# Altium integrated library National Semiconductor OtherParts.IntLib: 205 symbols (part 7 of 7)
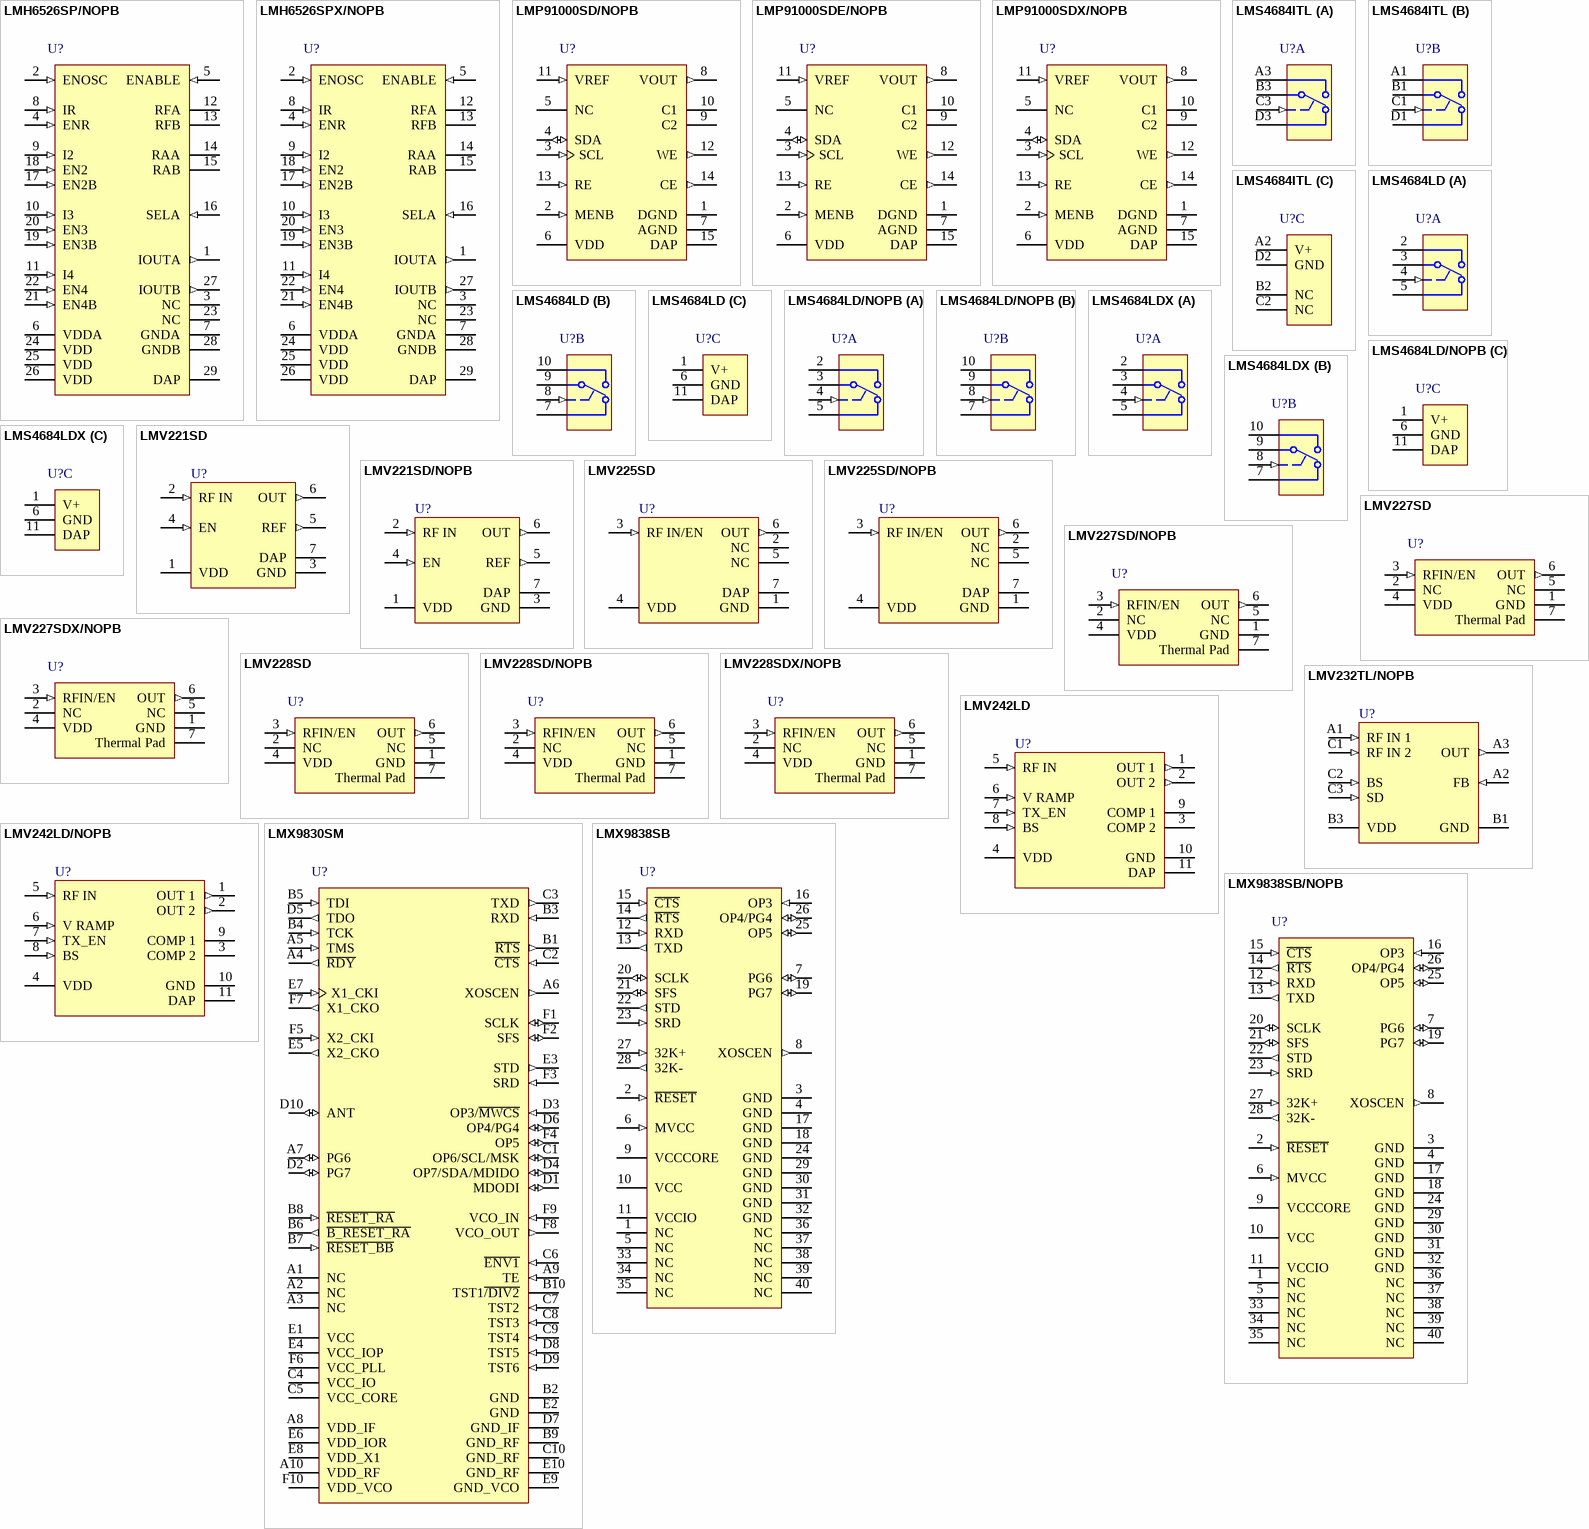
[diagram p18: symbols LMH6526SP/NOPB to LMX9838SB/NOPB]

## LMH6526SP/NOPB
designator U?
Four-Channel Laser Diode Driver with Dual Output, 28-pin LLP, Pb-Free; PartNumber: LMH6526SP/NOPB; Manufacturer: National Semiconductor; PackageTopMarking: NS*UZXYTT*L6526SP; PowerWise: N; CompType: OtherParts; High-Reliability: Y; DatasheetVersion: Jun-2005; PackageVersion: revA, Aug-2003; PackageReference: SPA28A; PackageDescription: LLP, Plastic, Quad, 5 x 5 x 0.6mm Body, 28 Lead, 0.5mm Pitch, No Pullback; RoHS: Y; PinCount: 28; Code_JEDEC: MO-220-WHHD-3; ComponentLink1Description: Manufacturer URL; ComponentLink1URL: http://www.national.com/; ComponentLink2Description: LMH6526 Datasheet; ComponentLink2URL: http://www.national.com/ds/LM/LMH6526.pdf; ComponentLink3Description: LMH6526 Web Page; ComponentLink3URL: http://www.national.com/pf/LM/LMH6526.html; ComponentLink4Description: SPA28A Package Page; ComponentLink4URL: http://www.national.com/packaging/folders/spa28a.html
footprint SPA28A (QFN, 28-Leads, Body 5x5mm, Pitch 0.5mm, Thermal Pad 3.7x3.7mm, NSC Recommended)
pins: 1 IOUTA (out), 2 ENOSC (in), 3 NC, 4 ENR (in), 5 ENABLE (in), 6 VDDA (power), 7 GNDA (power), 8 IR (in), 9 I2 (in), 10 I3 (in), 11 I4 (in), 12 RFA, 13 RFB, 14 RAA, 15 RAB, 16 SELA (in), 17 EN2B (in), 18 EN2 (in), 19 EN3B (in), 20 EN3 (in), 21 EN4B (in), 22 EN4 (in), 23 NC, 24 VDD (power), 25 VDD (power), 26 VDD (power), 27 IOUTB (out), 28 GNDB (power), 29 DAP (power)

## LMH6526SPX/NOPB
designator U?
Four-Channel Laser Diode Driver with Dual Output, 28-pin LLP, Pb-Free; PartNumber: LMH6526SPX/NOPB; Manufacturer: National Semiconductor; PackageTopMarking: NS*UZXYTT*L6526SP; PowerWise: N; CompType: OtherParts; High-Reliability: Y; DatasheetVersion: Jun-2005; PackageVersion: revA, Aug-2003; PackageReference: SPA28A; PackageDescription: LLP, Plastic, Quad, 5 x 5 x 0.6mm Body, 28 Lead, 0.5mm Pitch, No Pullback; RoHS: Y; PinCount: 28; Code_JEDEC: MO-220-WHHD-3; ComponentLink1Description: Manufacturer URL; ComponentLink1URL: http://www.national.com/; ComponentLink2Description: LMH6526 Datasheet; ComponentLink2URL: http://www.national.com/ds/LM/LMH6526.pdf; ComponentLink3Description: LMH6526 Web Page; ComponentLink3URL: http://www.national.com/pf/LM/LMH6526.html; ComponentLink4Description: SPA28A Package Page; ComponentLink4URL: http://www.national.com/packaging/folders/spa28a.html
footprint SPA28A (QFN, 28-Leads, Body 5x5mm, Pitch 0.5mm, Thermal Pad 3.7x3.7mm, NSC Recommended)
pins: 1 IOUTA (out), 2 ENOSC (in), 3 NC, 4 ENR (in), 5 ENABLE (in), 6 VDDA (power), 7 GNDA (power), 8 IR (in), 9 I2 (in), 10 I3 (in), 11 I4 (in), 12 RFA, 13 RFB, 14 RAA, 15 RAB, 16 SELA (in), 17 EN2B (in), 18 EN2 (in), 19 EN3B (in), 20 EN3 (in), 21 EN4B (in), 22 EN4 (in), 23 NC, 24 VDD (power), 25 VDD (power), 26 VDD (power), 27 IOUTB (out), 28 GNDB (power), 29 DAP (power)

## LMP91000SD/NOPB
designator U?
Configurable AFE Potentiostat for Low-Power Chemical Sensing Applications, 14-pin LLP, 1000 Reel; PartNumber: LMP91000SD/NOPB; Manufacturer: National Semiconductor; PackageTopMarking: NS*UZXYTT*L91000; PowerWise: N; CompType: OtherParts; High-Reliability: Y; DatasheetVersion: Jan-2011; PackageVersion: revA, Jul-2004; PackageReference: SDA14B; PackageDescription: LLP, Plastic, Dual, 4 x 4 x 0.8mm Body, 14 Lead, 0.5mm Pitch, No Pullback; RoHS: Y; PinCount: 14; ComponentLink1Description: Manufacturer URL; ComponentLink1URL: http://www.national.com/; ComponentLink2Description: LMP91000 Datasheet; ComponentLink2URL: http://www.national.com/ds/LM/LMP91000.pdf; ComponentLink3Description: LMP91000 Web Page; ComponentLink3URL: http://www.national.com/pf/LM/LMP91000.html; ComponentLink4Description: SDA14B Package Page; ComponentLink4URL: http://www.national.com/packaging/folders/sda14b.html
footprint SDA14B (SON, 14-Leads, Body 4x4mm, Pitch 0.5mm, NSC Recommended)
pins: 1 DGND (power), 2 MENB (in), 3 SCL (in), 4 SDA (io), 5 NC, 6 VDD (power), 7 AGND (power), 8 VOUT (out), 9 C2, 10 C1, 11 VREF (in), 12 WE (out), 13 RE (in), 14 CE (out), 15 DAP (power)

## LMP91000SDE/NOPB
designator U?
Configurable AFE Potentiostat for Low-Power Chemical Sensing Applications, 14-pin LLP, 250 Reel; PartNumber: LMP91000SDE/NOPB; Manufacturer: National Semiconductor; PackageTopMarking: NS*UZXYTT*L91000; PowerWise: N; CompType: OtherParts; High-Reliability: Y; DatasheetVersion: Jan-2011; PackageVersion: revA, Jul-2004; PackageReference: SDA14B; PackageDescription: LLP, Plastic, Dual, 4 x 4 x 0.8mm Body, 14 Lead, 0.5mm Pitch, No Pullback; RoHS: Y; PinCount: 14; ComponentLink1Description: Manufacturer URL; ComponentLink1URL: http://www.national.com/; ComponentLink2Description: LMP91000 Datasheet; ComponentLink2URL: http://www.national.com/ds/LM/LMP91000.pdf; ComponentLink3Description: LMP91000 Web Page; ComponentLink3URL: http://www.national.com/pf/LM/LMP91000.html; ComponentLink4Description: SDA14B Package Page; ComponentLink4URL: http://www.national.com/packaging/folders/sda14b.html
footprint SDA14B (SON, 14-Leads, Body 4x4mm, Pitch 0.5mm, NSC Recommended)
pins: 1 DGND (power), 2 MENB (in), 3 SCL (in), 4 SDA (io), 5 NC, 6 VDD (power), 7 AGND (power), 8 VOUT (out), 9 C2, 10 C1, 11 VREF (in), 12 WE (out), 13 RE (in), 14 CE (out), 15 DAP (power)

## LMP91000SDX/NOPB
designator U?
Configurable AFE Potentiostat for Low-Power Chemical Sensing Applications, 14-pin LLP, 4500 Reel; PartNumber: LMP91000SDX/NOPB; Manufacturer: National Semiconductor; PackageTopMarking: NS*UZXYTT*L91000; PowerWise: N; CompType: OtherParts; High-Reliability: Y; DatasheetVersion: Jan-2011; PackageVersion: revA, Jul-2004; PackageReference: SDA14B; PackageDescription: LLP, Plastic, Dual, 4 x 4 x 0.8mm Body, 14 Lead, 0.5mm Pitch, No Pullback; RoHS: Y; PinCount: 14; ComponentLink1Description: Manufacturer URL; ComponentLink1URL: http://www.national.com/; ComponentLink2Description: LMP91000 Datasheet; ComponentLink2URL: http://www.national.com/ds/LM/LMP91000.pdf; ComponentLink3Description: LMP91000 Web Page; ComponentLink3URL: http://www.national.com/pf/LM/LMP91000.html; ComponentLink4Description: SDA14B Package Page; ComponentLink4URL: http://www.national.com/packaging/folders/sda14b.html
footprint SDA14B (SON, 14-Leads, Body 4x4mm, Pitch 0.5mm, NSC Recommended)
pins: 1 DGND (power), 2 MENB (in), 3 SCL (in), 4 SDA (io), 5 NC, 6 VDD (power), 7 AGND (power), 8 VOUT (out), 9 C2, 10 C1, 11 VREF (in), 12 WE (out), 13 RE (in), 14 CE (out), 15 DAP (power)

## LMS4684ITL
designator U?
0.5ohm Low-Voltage, Dual SPDT Analog Switch, 12-pin Micro SMD; PartNumber: LMS4684ITL; Manufacturer: National Semiconductor; PackageTopMarking: XYTT*I F09A; PowerWise: N; CompType: OtherParts; High-Reliability: Y; DatasheetVersion: Sep-2005; PackageVersion: revC, Jan-2004; PackageReference: TLA12DPA; PackageDescription: Thin Micro SMD, 12 Bump (Large), Area Array, 0.5mm Pitch; RoHS: Y; PinCount: 12; Code_JEDEC: MO-211-DE; ComponentLink1Description: Manufacturer URL; ComponentLink1URL: http://www.national.com/; ComponentLink2Description: LMS4684 Datasheet; ComponentLink2URL: http://www.national.com/ds/LM/LMS4684.pdf; ComponentLink3Description: LMS4684 Web Page; ComponentLink3URL: http://www.national.com/pf/LM/LMS4684.html; ComponentLink4Description: TLA12DPA Package Page; ComponentLink4URL: http://www.national.com/packaging/folders/tla12dpa.html
footprint TLA12DPA (Micro SMD, 12-Leads, Body 2.33x1.59mm, Pitch 0.5mm, NSC Recommended)
part A pins: A3 NO1, B3 COM1, C3 IN1 (in), D3 NC1
part B pins: A1 NO2, B1 COM2, C1 IN2 (in), D1 NC2
part C pins: A2 V+, B2 NC (power), C2 NC (power), D2 GND (power)

## LMS4684LD
designator U?
0.5ohm Low-Voltage, Dual SPDT Analog Switch, 10-pin LLP; PartNumber: LMS4684LD; Manufacturer: National Semiconductor; PackageTopMarking: ZXYTT*L4684; PowerWise: N; CompType: OtherParts; High-Reliability: Y; DatasheetVersion: Sep-2005; PackageVersion: revB, Jun-2003; PackageReference: LDA10B; PackageDescription: LLP, Plastic, Dual, 3 x 4 x 0.75mm Body, 10 Lead, 0.5mm Pitch; RoHS: N; PinCount: 10; Code_JEDEC: MO-229-WEGD; ComponentLink1Description: Manufacturer URL; ComponentLink1URL: http://www.national.com/; ComponentLink2Description: LMS4684 Datasheet; ComponentLink2URL: http://www.national.com/ds/LM/LMS4684.pdf; ComponentLink3Description: LMS4684 Web Page; ComponentLink3URL: http://www.national.com/pf/LM/LMS4684.html; ComponentLink4Description: LDA10B Package Page; ComponentLink4URL: http://www.national.com/packaging/folders/lda10b.html
footprint LDA10B (PSON, 10-Leads, Body 3x4mm, Pitch 0.5mm, NSC Recommended)
part A pins: 2 NO1, 3 COM1, 4 IN1 (in), 5 NC1
part B pins: 7 NC2, 8 IN2 (in), 9 COM2, 10 NO2
part C pins: 1 V+, 6 GND (power), 11 DAP (power)

## LMS4684LD/NOPB
designator U?
0.5ohm Low-Voltage, Dual SPDT Analog Switch, 10-pin LLP, Pb-Free; PartNumber: LMS4684LD/NOPB; Manufacturer: National Semiconductor; PackageTopMarking: ZXYTT*L4684; PowerWise: N; CompType: OtherParts; High-Reliability: Y; DatasheetVersion: Sep-2005; PackageVersion: revB, Jun-2003; PackageReference: LDA10B; PackageDescription: LLP, Plastic, Dual, 3 x 4 x 0.75mm Body, 10 Lead, 0.5mm Pitch; RoHS: Y; PinCount: 10; Code_JEDEC: MO-229-WEGD; ComponentLink1Description: Manufacturer URL; ComponentLink1URL: http://www.national.com/; ComponentLink2Description: LMS4684 Datasheet; ComponentLink2URL: http://www.national.com/ds/LM/LMS4684.pdf; ComponentLink3Description: LMS4684 Web Page; ComponentLink3URL: http://www.national.com/pf/LM/LMS4684.html; ComponentLink4Description: LDA10B Package Page; ComponentLink4URL: http://www.national.com/packaging/folders/lda10b.html
footprint LDA10B (PSON, 10-Leads, Body 3x4mm, Pitch 0.5mm, NSC Recommended)
part A pins: 2 NO1, 3 COM1, 4 IN1 (in), 5 NC1
part B pins: 7 NC2, 8 IN2 (in), 9 COM2, 10 NO2
part C pins: 1 V+, 6 GND (power), 11 DAP (power)

## LMS4684LDX
designator U?
0.5ohm Low-Voltage, Dual SPDT Analog Switch, 10-pin LLP; PartNumber: LMS4684LDX; Manufacturer: National Semiconductor; PackageTopMarking: ZXYTT*L4684; PowerWise: N; CompType: OtherParts; High-Reliability: Y; DatasheetVersion: Sep-2005; PackageVersion: revB, Jun-2003; PackageReference: LDA10B; PackageDescription: LLP, Plastic, Dual, 3 x 4 x 0.75mm Body, 10 Lead, 0.5mm Pitch; RoHS: N; PinCount: 10; Code_JEDEC: MO-229-WEGD; ComponentLink1Description: Manufacturer URL; ComponentLink1URL: http://www.national.com/; ComponentLink2Description: LMS4684 Datasheet; ComponentLink2URL: http://www.national.com/ds/LM/LMS4684.pdf; ComponentLink3Description: LMS4684 Web Page; ComponentLink3URL: http://www.national.com/pf/LM/LMS4684.html; ComponentLink4Description: LDA10B Package Page; ComponentLink4URL: http://www.national.com/packaging/folders/lda10b.html
footprint LDA10B (PSON, 10-Leads, Body 3x4mm, Pitch 0.5mm, NSC Recommended)
part A pins: 2 NO1, 3 COM1, 4 IN1 (in), 5 NC1
part B pins: 7 NC2, 8 IN2 (in), 9 COM2, 10 NO2
part C pins: 1 V+, 6 GND (power), 11 DAP (power)

## LMV221SD
designator U?
50 MHz to 3.5 GHz 40 dB Logarithmic Power Detector for CDMA and WCDMA, 6-pin LLP; PartNumber: LMV221SD; Manufacturer: National Semiconductor; PackageTopMarking: XTT*A96; PowerWise: Y; CompType: OtherParts; DatasheetVersion: Mar-2008; PackageVersion: revA, Nov-2003; PackageReference: SDB06A; PackageDescription: LLP, Plastic, Dual, 2.2 x 2.5 x 0.8mm Body, 6 Lead, 0.65mm Pitch, No Pullback; RoHS: Y; PinCount: 7; High-Reliability: Y; ComponentLink1Description: Manufacturer URL; ComponentLink1URL: http://www.national.com/; ComponentLink2Description: LMV221 Datasheet; ComponentLink2URL: http://www.national.com/ds/LM/LMV221.pdf; ComponentLink3Description: LMV221 Web Page; ComponentLink3URL: http://www.national.com/pf/LM/LMV221.html; ComponentLink4Description: SDB06A package page; ComponentLink4URL: http://www.national.com/packaging/folders/sdb06a.html
footprint SDB06A (SON, 6-Leads, Body 2.2x2.5mm, Pitch 0.65mm, NSC Recommended (SC-70 Land))
pins: 1 VDD (power), 2 RF IN (in), 3 GND (power), 4 EN (in), 5 REF (out), 6 OUT (out), 7 DAP (power)

## LMV221SD/NOPB
designator U?
50 MHz to 3.5 GHz 40 dB Logarithmic Power Detector for CDMA and WCDMA, 6-pin LLP, Pb-Free; PartNumber: LMV221SD/NOPB; Manufacturer: National Semiconductor; PackageTopMarking: XTT*A96; PowerWise: Y; CompType: OtherParts; DatasheetVersion: Mar-2008; PackageVersion: revA, Nov-2003; PackageReference: SDB06A; PackageDescription: LLP, Plastic, Dual, 2.2 x 2.5 x 0.8mm Body, 6 Lead, 0.65mm Pitch, No Pullback; RoHS: Y; PinCount: 6; High-Reliability: Y; ComponentLink1Description: Manufacturer URL; ComponentLink1URL: http://www.national.com/; ComponentLink2Description: LMV221 Datasheet; ComponentLink2URL: http://www.national.com/ds/LM/LMV221.pdf; ComponentLink3Description: LMV221 Web Page; ComponentLink3URL: http://www.national.com/pf/LM/LMV221.html; ComponentLink4Description: SDB06A Package Page; ComponentLink4URL: http://www.national.com/packaging/folders/sdb06a.html
footprint SDB06A (SON, 6-Leads, Body 2.2x2.5mm, Pitch 0.65mm, NSC Recommended (SC-70 Land))
pins: 1 VDD (power), 2 RF IN (in), 3 GND (power), 4 EN (in), 5 REF (out), 6 OUT (out), 7 DAP (power)

## LMV225SD
designator U?
RF Power Detector for CDMA and WCDMA, 6-pin LLP; PartNumber: LMV225SD; Manufacturer: National Semiconductor; PackageTopMarking: XTT*A90; PowerWise: Y; CompType: OtherParts; DatasheetVersion: Oct-2006; PackageVersion: revA, Nov-2003; PackageReference: SDB06A; PackageDescription: LLP, Plastic, Dual, 2.2 x 2.5 x 0.8mm Body, 6 Lead, 0.65mm Pitch, No Pullback; RoHS: N; PinCount: 6; High-Reliability: Y; ComponentLink1Description: Manufacturer URL; ComponentLink1URL: http://www.national.com/; ComponentLink2Description: LMV225 Datasheet; ComponentLink2URL: http://www.national.com/ds/LM/LMV225.pdf; ComponentLink3Description: LMV225 Web Page; ComponentLink3URL: http://www.national.com/pf/LM/LMV225.html; ComponentLink4Description: SDB06A Package Page; ComponentLink4URL: http://www.national.com/packaging/folders/sdb06a.html
footprint SDB06A (SON, 6-Leads, Body 2.2x2.5mm, Pitch 0.65mm, NSC Recommended (SC-70 Land))
pins: 1 GND (power), 2 NC, 3 RF IN/EN (in), 4 VDD (power), 5 NC, 6 OUT (out), 7 DAP (power)

## LMV225SD/NOPB
designator U?
RF Power Detector for CDMA and WCDMA, 6-pin LLP, Pb-Free; PartNumber: LMV225SD/NOPB; Manufacturer: National Semiconductor; PackageTopMarking: XTT*A90; PowerWise: Y; CompType: OtherParts; DatasheetVersion: Oct-2006; PackageVersion: revA, Nov-2003; PackageReference: SDB06A; PackageDescription: LLP, Plastic, Dual, 2.2 x 2.5 x 0.8mm Body, 6 Lead, 0.65mm Pitch, No Pullback; RoHS: Y; PinCount: 6; High-Reliability: Y; ComponentLink1Description: Manufacturer URL; ComponentLink1URL: http://www.national.com/; ComponentLink2Description: LMV225 Datasheet; ComponentLink2URL: http://www.national.com/ds/LM/LMV225.pdf; ComponentLink3Description: LMV225 Web Page; ComponentLink3URL: http://www.national.com/pf/LM/LMV225.html; ComponentLink4Description: SDB06A Package Page; ComponentLink4URL: http://www.national.com/packaging/folders/sdb06a.html
footprint SDB06A (SON, 6-Leads, Body 2.2x2.5mm, Pitch 0.65mm, NSC Recommended (SC-70 Land))
pins: 1 GND (power), 2 NC, 3 RF IN/EN (in), 4 VDD (power), 5 NC, 6 OUT (out), 7 DAP (power)

## LMV227SD
designator U?
Production RF Tested, RF Power Detector for CDMA and WCDMA, 6-pin LLP; PartNumber: LMV227SD; Manufacturer: National Semiconductor; PackageTopMarking: THHD*XTT; PowerWise: N; CompType: OtherParts; High-Reliability: Y; DatasheetVersion: Jul-2006; PackageVersion: revA, Nov-2003; PackageReference: SDB06A; PackageDescription: LLP, Plastic, Dual, 2.2 x 2.5 x 0.8mm Body, 6 Lead, 0.65mm Pitch, No Pullback; RoHS: Y; PinCount: 6; ComponentLink1Description: Manufacturer URL; ComponentLink1URL: http://www.national.com/; ComponentLink2Description: LMV227 Datasheet; ComponentLink2URL: http://www.national.com/ds/LM/LMV227.pdf; ComponentLink3Description: LMV227 Web Page; ComponentLink3URL: http://www.national.com/pf/LM/LMV227.html; ComponentLink4Description: SDB06A Package Page; ComponentLink4URL: http://www.national.com/packaging/folders/sdb06a.html
footprint SDB06A (SON, 6-Leads, Body 2.2x2.5mm, Pitch 0.65mm, NSC Recommended (SC-70 Land))
pins: 1 GND (power), 2 NC, 3 RFIN/EN (in), 4 VDD (power), 5 NC, 6 OUT (out), 7 Thermal Pad (power)

## LMV227SD/NOPB
designator U?
Production RF Tested, RF Power Detector for CDMA and WCDMA, 6-pin LLP, Pb-Free; PartNumber: LMV227SD/NOPB; Manufacturer: National Semiconductor; PackageTopMarking: XTT*A88; PowerWise: N; CompType: OtherParts; High-Reliability: Y; DatasheetVersion: Jul-2006; PackageVersion: revA, Nov-2003; PackageReference: SDB06A; PackageDescription: LLP, Plastic, Dual, 2.2 x 2.5 x 0.8mm Body, 6 Lead, 0.65mm Pitch, No Pullback; RoHS: Y; PinCount: 6; ComponentLink1Description: Manufacturer URL; ComponentLink1URL: http://www.national.com/; ComponentLink2Description: LMV227 Datasheet; ComponentLink2URL: http://www.national.com/ds/LM/LMV227.pdf; ComponentLink3Description: LMV227 Web Page; ComponentLink3URL: http://www.national.com/pf/LM/LMV227.html; ComponentLink4Description: SDB06A Package Page; ComponentLink4URL: http://www.national.com/packaging/folders/sdb06a.html
footprint SDB06A (SON, 6-Leads, Body 2.2x2.5mm, Pitch 0.65mm, NSC Recommended (SC-70 Land))
pins: 1 GND (power), 2 NC, 3 RFIN/EN (in), 4 VDD (power), 5 NC, 6 OUT (out), 7 Thermal Pad (power)

## LMV227SDX/NOPB
designator U?
Production RF Tested, RF Power Detector for CDMA and WCDMA, 6-pin LLP, Pb-Free; PartNumber: LMV227SDX/NOPB; Manufacturer: National Semiconductor; PackageTopMarking: XTT*A88; PowerWise: N; CompType: OtherParts; High-Reliability: Y; DatasheetVersion: Jul-2006; PackageVersion: revA, Nov-2003; PackageReference: SDB06A; PackageDescription: LLP, Plastic, Dual, 2.2 x 2.5 x 0.8mm Body, 6 Lead, 0.65mm Pitch, No Pullback; RoHS: Y; PinCount: 6; ComponentLink1Description: Manufacturer URL; ComponentLink1URL: http://www.national.com/; ComponentLink2Description: LMV227 Datasheet; ComponentLink2URL: http://www.national.com/ds/LM/LMV227.pdf; ComponentLink3Description: LMV227 Web Page; ComponentLink3URL: http://www.national.com/pf/LM/LMV227.html; ComponentLink4Description: SDB06A Package Page; ComponentLink4URL: http://www.national.com/packaging/folders/sdb06a.html
footprint SDB06A (SON, 6-Leads, Body 2.2x2.5mm, Pitch 0.65mm, NSC Recommended (SC-70 Land))
pins: 1 GND (power), 2 NC, 3 RFIN/EN (in), 4 VDD (power), 5 NC, 6 OUT (out), 7 Thermal Pad (power)

## LMV228SD
designator U?
RF Power Detector for CDMA and WCDMA, 6-pin LLP; PartNumber: LMV228SD; Manufacturer: National Semiconductor; PackageTopMarking: THHD*XTT; PowerWise: N; CompType: OtherParts; High-Reliability: Y; DatasheetVersion: Oct-2006; PackageVersion: revA, Nov-2003; PackageReference: SDB06A; PackageDescription: LLP, Plastic, Dual, 2.2 x 2.5 x 0.8mm Body, 6 Lead, 0.65mm Pitch, No Pullback; RoHS: Y; PinCount: 6; ComponentLink1Description: Manufacturer URL; ComponentLink1URL: http://www.national.com/; ComponentLink2Description: LMV228 Datasheet; ComponentLink2URL: http://www.national.com/ds/LM/LMV228.pdf; ComponentLink3Description: LMV228 Web Page; ComponentLink3URL: http://www.national.com/pf/LM/LMV228.html; ComponentLink4Description: SDB06A Package Page; ComponentLink4URL: http://www.national.com/packaging/folders/sdb06a.html
footprint SDB06A (SON, 6-Leads, Body 2.2x2.5mm, Pitch 0.65mm, NSC Recommended (SC-70 Land))
pins: 1 GND (power), 2 NC, 3 RFIN/EN (in), 4 VDD (power), 5 NC, 6 OUT (out), 7 Thermal Pad (power)

## LMV228SD/NOPB
designator U?
RF Power Detector for CDMA and WCDMA, 6-pin LLP, Pb-Free; PartNumber: LMV228SD/NOPB; Manufacturer: National Semiconductor; PackageTopMarking: XTT*A89; PowerWise: N; CompType: OtherParts; High-Reliability: Y; DatasheetVersion: Oct-2006; PackageVersion: revA, Nov-2003; PackageReference: SDB06A; PackageDescription: LLP, Plastic, Dual, 2.2 x 2.5 x 0.8mm Body, 6 Lead, 0.65mm Pitch, No Pullback; RoHS: Y; PinCount: 6; ComponentLink1Description: Manufacturer URL; ComponentLink1URL: http://www.national.com/; ComponentLink2Description: LMV228 Datasheet; ComponentLink2URL: http://www.national.com/ds/LM/LMV228.pdf; ComponentLink3Description: LMV228 Web Page; ComponentLink3URL: http://www.national.com/pf/LM/LMV228.html; ComponentLink4Description: SDB06A Package Page; ComponentLink4URL: http://www.national.com/packaging/folders/sdb06a.html
footprint SDB06A (SON, 6-Leads, Body 2.2x2.5mm, Pitch 0.65mm, NSC Recommended (SC-70 Land))
pins: 1 GND (power), 2 NC, 3 RFIN/EN (in), 4 VDD (power), 5 NC, 6 OUT (out), 7 Thermal Pad (power)

## LMV228SDX/NOPB
designator U?
RF Power Detector for CDMA and WCDMA, 6-pin LLP, Pb-Free; PartNumber: LMV228SDX/NOPB; Manufacturer: National Semiconductor; PackageTopMarking: XTT*A89; PowerWise: N; CompType: OtherParts; High-Reliability: Y; DatasheetVersion: Oct-2006; PackageVersion: revA, Nov-2003; PackageReference: SDB06A; PackageDescription: LLP, Plastic, Dual, 2.2 x 2.5 x 0.8mm Body, 6 Lead, 0.65mm Pitch, No Pullback; RoHS: Y; PinCount: 6; ComponentLink1Description: Manufacturer URL; ComponentLink1URL: http://www.national.com/; ComponentLink2Description: LMV228 Datasheet; ComponentLink2URL: http://www.national.com/ds/LM/LMV228.pdf; ComponentLink3Description: LMV228 Web Page; ComponentLink3URL: http://www.national.com/pf/LM/LMV228.html; ComponentLink4Description: SDB06A Package Page; ComponentLink4URL: http://www.national.com/packaging/folders/sdb06a.html
footprint SDB06A (SON, 6-Leads, Body 2.2x2.5mm, Pitch 0.65mm, NSC Recommended (SC-70 Land))
pins: 1 GND (power), 2 NC, 3 RFIN/EN (in), 4 VDD (power), 5 NC, 6 OUT (out), 7 Thermal Pad (power)

## LMV232TL/NOPB
designator U?
Dual-Channel Integrated Mean Square Power Detector for CDMA & WCDMA, 8-pin Micro SMD, Pb-Free; PartNumber: LMV232TL/NOPB; Manufacturer: National Semiconductor; PackageTopMarking: XVA*I 02; PowerWise: Y; CompType: OtherParts; DatasheetVersion: Apr-2005; PackageVersion: revC, Jan-2004; PackageReference: TLA08AAA; PackageDescription: Thin Micro SMD, 8 Bump (Large), 0.5mm Pitch; RoHS: Y; PinCount: 8; High-Reliability: Y; ComponentLink1Description: Manufacturer URL; ComponentLink1URL: http://www.national.com/; ComponentLink2Description: LMV232 Datasheet; ComponentLink2URL: http://www.national.com/ds/LM/LMV232.pdf; ComponentLink3Description: LMV232 Web Page; ComponentLink3URL: http://www.national.com/pf/LM/LMV232.html; ComponentLink4Description: TLA08AAA Package Page; ComponentLink4URL: http://www.national.com/packaging/folders/tla08aaa.html
footprint TLA08AAA (Micro SMD, 8-Leads, Body 1.52x1.52mm, Pitch 0.5mm, NSC Recommended)
pins: A1 RF IN 1 (in), A2 FB (in), A3 OUT (out), B1 GND (power), B3 VDD (power), C1 RF IN 2 (in), C2 BS (in), C3 SD (in)

## LMV242LD
designator U?
Dual Output, Quad-Band GSM/GPRS Power Amplifier Controller, 10-pin LLP; PartNumber: LMV242LD; Manufacturer: National Semiconductor; PackageTopMarking: ZXYTT*242LD; PowerWise: Y; CompType: OtherParts; DatasheetVersion: Jul-2004; PackageVersion: revB, Jan-2003; PackageReference: LDA10A; PackageDescription: LLP, Plastic, Dual, 3 x 3 x 0.75mm Body, 10 Lead, 0.5mm Pitch; RoHS: N; PinCount: 10; High-Reliability: Y; ComponentLink1Description: Manufacturer URL; ComponentLink1URL: http://www.national.com/; ComponentLink2Description: LMV242 Datasheet; ComponentLink2URL: http://www.national.com/ds/LM/LMV242.pdf; ComponentLink3Description: LMV242 Web Page; ComponentLink3URL: http://www.national.com/pf/LM/LMV242.html; ComponentLink4Description: LDA10A Package Page; ComponentLink4URL: http://www.national.com/packaging/folders/lda10a.html
footprint LDA10A (PSON, 10-Leads, Body 3x3mm, Pitch 0.5mm, NSC Recommended)
pins: 1 OUT 1 (out), 2 OUT 2 (out), 3 COMP 2, 4 VDD (power), 5 RF IN (in), 6 V RAMP (in), 7 TX_EN (in), 8 BS (in), 9 COMP 1, 10 GND (power), 11 DAP (power)

## LMV242LD/NOPB
designator U?
Dual Output, Quad-Band GSM/GPRS Power Amplifier Controller, 10-pin LLP, Pb-Free; PartNumber: LMV242LD/NOPB; Manufacturer: National Semiconductor; PackageTopMarking: ZXYTT*242LD; PowerWise: Y; CompType: OtherParts; DatasheetVersion: Jul-2004; PackageVersion: revB, Jan-2003; PackageReference: LDA10A; PackageDescription: LLP, Plastic, Dual, 3 x 3 x 0.75mm Body, 10 Lead, 0.5mm Pitch; RoHS: Y; PinCount: 10; High-Reliability: Y; ComponentLink1Description: Manufacturer URL; ComponentLink1URL: http://www.national.com/; ComponentLink2Description: LMV242 Datasheet; ComponentLink2URL: http://www.national.com/ds/LM/LMV242.pdf; ComponentLink3Description: LMV242 Web Page; ComponentLink3URL: http://www.national.com/pf/LM/LMV242.html; ComponentLink4Description: LDA10A Package Page; ComponentLink4URL: http://www.national.com/packaging/folders/lda10a.html
footprint LDA10A (PSON, 10-Leads, Body 3x3mm, Pitch 0.5mm, NSC Recommended)
pins: 1 OUT 1 (out), 2 OUT 2 (out), 3 COMP 2, 4 VDD (power), 5 RF IN (in), 6 V RAMP (in), 7 TX_EN (in), 8 BS (in), 9 COMP 1, 10 GND (power), 11 DAP (power)

## LMX9830SM
designator U?
Bluetooth Serial Port Module, 60-pin FBGA; PartNumber: LMX9830SM; Manufacturer: National Semiconductor; PackageTopMarking: THHD*XTT; PowerWise: N; CompType: OtherParts; High-Reliability: Y; DatasheetVersion: Sep-2008; PackageVersion: revA, Oct-2003; PackageReference: SLF60A; PackageDescription: FBGA, Plastic, Laminate, 9 x 6 x 1.2mm, 60 Ball, 0.8mm Pitch; RoHS: Y; PinCount: 60; ComponentLink1Description: Manufacturer URL; ComponentLink1URL: http://www.national.com/; ComponentLink2Description: LMX9830 Datasheet; ComponentLink2URL: http://www.national.com/ds/LM/LMX9830.pdf; ComponentLink3Description: LMX9830 Web Page; ComponentLink3URL: http://www.national.com/pf/LM/LMX9830.html; ComponentLink4Description: SLF60A Package Page; ComponentLink4URL: http://www.national.com/packaging/folders/slf60a.html
footprint SLF60A (BGA, 60-Leads, Body 6x9mm, Pitch 0.8mm)
pins: A1 NC, A2 NC, A3 NC, A4 ~{RDY} (out), A5 TMS (in), A6 XOSCEN (out), A7 PG6 (io), A8 VDD_IF (power), A9 TE (in), A10 VDD_RF (power), B1 ~{RTS} (out), B2 GND (power), B3 RXD (in), B4 TCK (in), B5 TDI (in), B6 ~{B_RESET_RA} (out), B7 ~{RESET_BB} (in), B8 ~{RESET_RA} (in), B9 GND_RF (power), B10 TST1~{/DIV2}, C1 OP6/SCL/MSK (io), C2 ~{CTS} (in), C3 TXD (out), C4 VCC_IO (power), C5 VCC_CORE (power), C6 ~{ENV1} (in), C7 TST2 (in), C8 TST3 (in), C9 TST4 (in), C10 GND_RF (power), D1 MDODI (io), D2 PG7 (io), D3 OP3/~{MWCS} (in), D4 OP7/SDA/MDIDO (io), D5 TDO (out), D6 OP4/PG4 (io), D7 GND_IF (power), D8 TST5 (in), D9 TST6 (in), D10 ANT (io), E1 VCC (power), E2 GND (power), E3 STD (out), E4 VCC_IOP (power), E5 X2_CKO (out), E6 VDD_IOR (power), E7 X1_CKI (in), E8 VDD_X1 (power), E9 GND_VCO (power), E10 GND_RF (power), F1 SCLK (io), F2 SFS (io), F3 SRD (in), F4 OP5 (io), F5 X2_CKI (in), F6 VCC_PLL (power), F7 X1_CKO (out), F8 VCO_OUT (out), F9 VCO_IN (in), F10 VDD_VCO (power)

## LMX9838SB
designator U?
Bluetooth Serial Port Module, 40-pin LTCC; PartNumber: LMX9838SB; Manufacturer: National Semiconductor; PackageTopMarking: NSCE2VZXYYTT*LMX9838SB*FCC ID; PowerWise: N; CompType: OtherParts; High-Reliability: Y; DatasheetVersion: Sep-2007; PackageVersion: Sep-2007; PackageReference: SB70A; PackageDescription: LGA, 10 x 17 x 1.85mm, 70 Pad, 1.0mm Pitch; RoHS: Y; PinCount: 40; ComponentLink1Description: Manufacturer URL; ComponentLink1URL: http://www.national.com/; ComponentLink2Description: LMX9838 Datasheet; ComponentLink2URL: http://www.national.com/ds/LM/LMX9838.pdf; ComponentLink3Description: LMX9838 Web Page; ComponentLink3URL: http://www.national.com/pf/LM/LMX9838.html
footprint SB70A (Lead Grid Array, 70-Leads (30 Absent), Body 17x10mm, Pitch 1mm, NSC Recommended)
pins: 1 NC, 2 ~{RESET} (in), 3 GND (power), 4 GND (power), 5 NC, 6 MVCC (in), 7 PG6 (io), 8 XOSCEN (out), 9 VCCCORE (power), 10 VCC (power), 11 VCCIO (power), 12 RXD (in), 13 TXD (out), 14 ~{RTS} (out), 15 ~{CTS} (in), 16 OP3 (in), 17 GND (power), 18 GND (power), 19 PG7 (io), 20 SCLK (io), 21 SFS (io), 22 STD (out), 23 SRD (in), 24 GND (power), 25 OP5 (io), 26 OP4/PG4 (io), 27 32K+ (in), 28 32K- (out), 29 GND (power), 30 GND (power), 31 GND (power), 32 GND (power), 33 NC, 34 NC, 35 NC, 36 NC, 37 NC, 38 NC, 39 NC, 40 NC

## LMX9838SB/NOPB
designator U?
Bluetooth Serial Port Module, 70-pin LTCC, Pb-Free; PartNumber: LMX9838SB/NOPB; Manufacturer: National Semiconductor; PackageTopMarking: NSCE2VZXYYTT*LMX9838SB*FCC ID; PowerWise: N; CompType: OtherParts; High-Reliability: Y; DatasheetVersion: Sep-2007; PackageVersion: Sep-2007; PackageReference: SB70A; PackageDescription: LGA, 10 x 17 x 1.85mm, 70 Pad, 1.0mm Pitch; RoHS: Y; PinCount: 70; ComponentLink1Description: Manufacturer URL; ComponentLink1URL: http://www.national.com/; ComponentLink2Description: LMX9838 Datasheet; ComponentLink2URL: http://www.national.com/ds/LM/LMX9838.pdf; ComponentLink3Description: LMX9838 Web Page; ComponentLink3URL: http://www.national.com/pf/LM/LMX9838.html; ComponentLink4Description: SB70A Package Page; ComponentLink4URL: http://www.national.com/packaging/folders/sb70a.html
footprint SB70A (Lead Grid Array, 70-Leads (30 Absent), Body 17x10mm, Pitch 1mm, NSC Recommended)
pins: 1 NC, 2 ~{RESET} (in), 3 GND (power), 4 GND (power), 5 NC, 6 MVCC (in), 7 PG6 (io), 8 XOSCEN (out), 9 VCCCORE (power), 10 VCC (power), 11 VCCIO (power), 12 RXD (in), 13 TXD (out), 14 ~{RTS} (out), 15 ~{CTS} (in), 16 OP3 (in), 17 GND (power), 18 GND (power), 19 PG7 (io), 20 SCLK (io), 21 SFS (io), 22 STD (out), 23 SRD (in), 24 GND (power), 25 OP5 (io), 26 OP4/PG4 (io), 27 32K+ (in), 28 32K- (out), 29 GND (power), 30 GND (power), 31 GND (power), 32 GND (power), 33 NC, 34 NC, 35 NC, 36 NC, 37 NC, 38 NC, 39 NC, 40 NC